# Altium footprint library A_Connector.PcbLib: 25 footprints (part 2 of 2)
Each footprint in its own frame and in the unit in brackets; x right, y up, seen from the top. Pads: shape width x height; smd on the part's side, far side on the other; paste and mask are expansions set on the pad; w line width, h text height; cw(c..) or ccw(c..) is an arc to the next point about the centre after c.
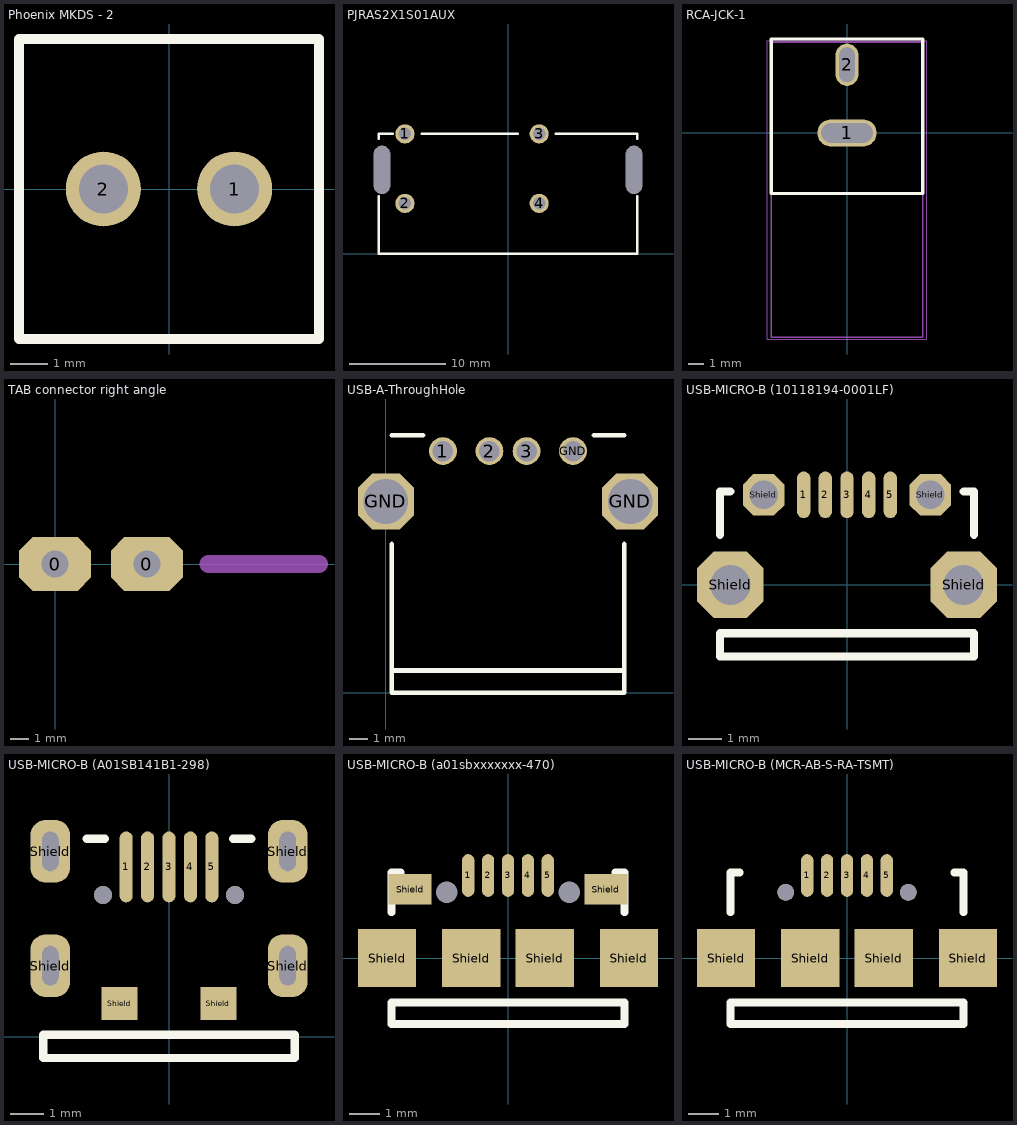
[diagram p1: the footprints below, top view; thin cyan lines are the x and y axes]

## Phoenix MKDS - 2 [mm]
pads (2):
  round 2 hole 1.3: 1(1.75,0) 2(-1.75,0)
Top Overlay:
  lines w0.254: -4,-4 -4,4 4,4 4,-4 -4,-4
3D body "1751248_04.stp": height 8.5, standoff -3.5, extent -3.75,-3.7 3.75,3.6

## PJRAS2X1S01AUX [mm]
pads (6):
  round 2 hole 1.3: 1(-10.75,12.5) 2(-10.75,5.25) 3(3.25,12.5) 4(3.25,5.25)
  round 0 hole 5 slot 1.7 at 0 deg: 4(-13.15,8.75) 4(13.15,8.75)
Top Overlay:
  lines w0.254: -13.5,6 -13.5,0 13.5,0 13.5,6 ; -13.5,12 -13.5,12.5 -12,12.5 ; -9,12.5 1,12.5 ; 5,12.5 13.5,12.5 13.5,12

## RCA-JCK-1 [mm] "RCA Phono Jack, Right Angle"
height 13
pads (2):
  oval 3.9x1.8 hole 1.3 slot 3.4 at 0 deg: 1(0,0)
  oval 1.5x2.8 hole 1 slot 2.3 at 90 deg: 2(0,4.5)
Top Overlay:
  lines w0.2: -5,-4 5,-4 5,6.2 -5,6.2 -5,-4
Mechanical 13:
  lines w0.1: -5,-4 5,-4 ; -5,-13.5 -5,6 5,6 5,-13.5 -5,-13.5
Mechanical 15:
  lines w0.05: -5.25,-13.6 -5.25,6.1 5.25,6.1 5.25,-13.6 -5.25,-13.6
  lines w0.1: -0.5,0 0.5,0 ; 0,-0.5 0,0.5
3D body "rcj-041.stp": height 11.51, standoff -3.98, extent -5,-13.5 5,6

## TAB connector right angle [mm]
pads (2):
  oct 4x3 hole 1.5 paste+0: 0(0,0) 0(5.08,0)
Mechanical 13:
  lines w1: 8.5,0 14.61,0
3D body "c-1217756-1-e-3d.stp": height 7.47, standoff -3.8, extent -0.6,-0.4 13.624,0.4

## USB-A-ThroughHole [mm]
pads (6):
  round 1.5 hole 1.1: 1(3.07,13) 2(5.57,13) 3(7.57,13) GND(10.07,13)
  oct 3x3 hole 2.4: GND(0,10.29) GND(13.14,10.29)
Top Overlay:
  lines w0.254: 0.32,1.2 12.82,1.2 ; 0.32,8 0.32,0 12.82,0 12.82,8 ; 0.32,13.85 2,13.85 ; 11.2,13.85 12.82,13.85
3D body "M-UE27-AC54-100-REVT1.STEP": height 7.6, standoff -3.15, extent -0.826,0 14.026,13.8

## USB-MICRO-B (10118194-0001LF) [mm] "Round Holes; USB - micro B USB 2.0 Receptacle Connector 5 Position Surface Mount, Right Angle, Horizontal"
height 3
pads (9):
  oval 0.4x1.4 smd mask+0.08: 1(-1.3,2.7) 2(-0.65,2.7) 3(0,2.7) 4(0.65,2.7) 5(1.3,2.7)
  oct 2x2 hole 1.2: Shield(-3.5,0) Shield(3.5,0)
  oct 1.25x1.25 hole 0.85: Shield(-2.5,2.7) Shield(2.5,2.7)
Top Overlay:
  lines w0.254: -3.81,1.5 -3.81,2.8 -3.5,2.8 ; 3.5,2.8 3.81,2.8 3.81,1.5 ; -3.81,-2.15 3.81,-2.15 3.81,-1.45 -3.81,-1.45 -3.81,-2.15
3D body "User Library-10118194_.SLDPRT": height 3.13, standoff -0.15, extent -4,-2.69 4.05,2.89

## USB-MICRO-B (A01SB141B1-298) [mm] "Round Holes; USB - micro B USB 2.0 Receptacle Connector 5 Position Surface Mount, Right Angle, Horizontal"
height 3
pads (11):
  oval 0.4x2.15 smd mask+0.08: 1(-1.3,5.145) 2(-0.65,5.145) 3(0,5.145) 4(0.65,5.145) 5(1.3,5.145)
  rrect75% 1.2x1.9 hole 1.2 slot 0.5 at 0 deg: Shield(-3.6,2.15) Shield(-3.6,5.62) Shield(3.6,2.15) Shield(3.6,5.62)
  rect 1.1x1 smd: Shield(-1.5,1) Shield(1.5,1)
via 2,4.3 diameter 0.55 hole 0.55
via -2,4.3 diameter 0.55 hole 0.55
Top Overlay:
  lines w0.254: -2.5,6 -1.94,6 ; 1.94,6 2.5,6 ; -3.81,-0.65 3.81,-0.65 3.81,0.05 -3.81,0.05 -3.81,-0.65
3D body "User Library-10118194_.SLDPRT": height 3.13, standoff -0.15, extent -4.025,-0.75 4.025,4.83

## USB-MICRO-B (a01sbxxxxxxx-470) [mm]
pads (13):
  oval 0.4x1.4 smd mask+0.08: 1(-1.3,2.7) 2(-0.65,2.7) 3(0,2.7) 4(0.65,2.7) 5(1.3,2.7)
  rect 1.9x1.9 smd: Shield(-3.95,0) Shield(-1.2,0) Shield(1.2,0) Shield(3.95,0)
  rect 1.4x1 smd: Shield(-3.2,2.25) Shield(3.2,2.25)
  round 0.55 hole 0.7 unplated: Shield(-2,2.15) Shield(2,2.15)
Top Overlay:
  lines w0.254: -3.81,1.5 -3.81,2.8 -3.5,2.8 ; 3.5,2.8 3.81,2.8 3.81,1.5 ; -3.81,-2.15 3.81,-2.15 3.81,-1.45 -3.81,-1.45 -3.81,-2.15

## USB-MICRO-B (MCR-AB-S-RA-TSMT) [mm] "Round Holes; USB - micro B USB 2.0 Receptacle Connector 5 Position Surface Mount, Right Angle, Horizontal"
height 3
pads (11):
  oval 0.4x1.4 smd mask+0.08: 1(-1.3,2.7) 2(-0.65,2.7) 3(0,2.7) 4(0.65,2.7) 5(1.3,2.7)
  rect 1.9x1.9 smd: Shield(-3.95,0) Shield(-1.2,0) Shield(1.2,0) Shield(3.95,0)
  round 0.55 hole 0.55 unplated: Shield(-2,2.15) Shield(2,2.15)
Top Overlay:
  lines w0.254: -3.81,1.5 -3.81,2.8 -3.5,2.8 ; 3.5,2.8 3.81,2.8 3.81,1.5 ; -3.81,-2.15 3.81,-2.15 3.81,-1.45 -3.81,-1.45 -3.81,-2.15